# Altium footprint library PcbLib1.PcbLib: 329 footprints (part 14 of 21)
Each footprint in its own frame and in the unit in brackets; x right, y up, seen from the top. Pads: shape width x height; smd on the part's side, far side on the other; paste and mask are expansions set on the pad; w line width, h text height; cw(c..) or ccw(c..) is an arc to the next point about the centre after c.
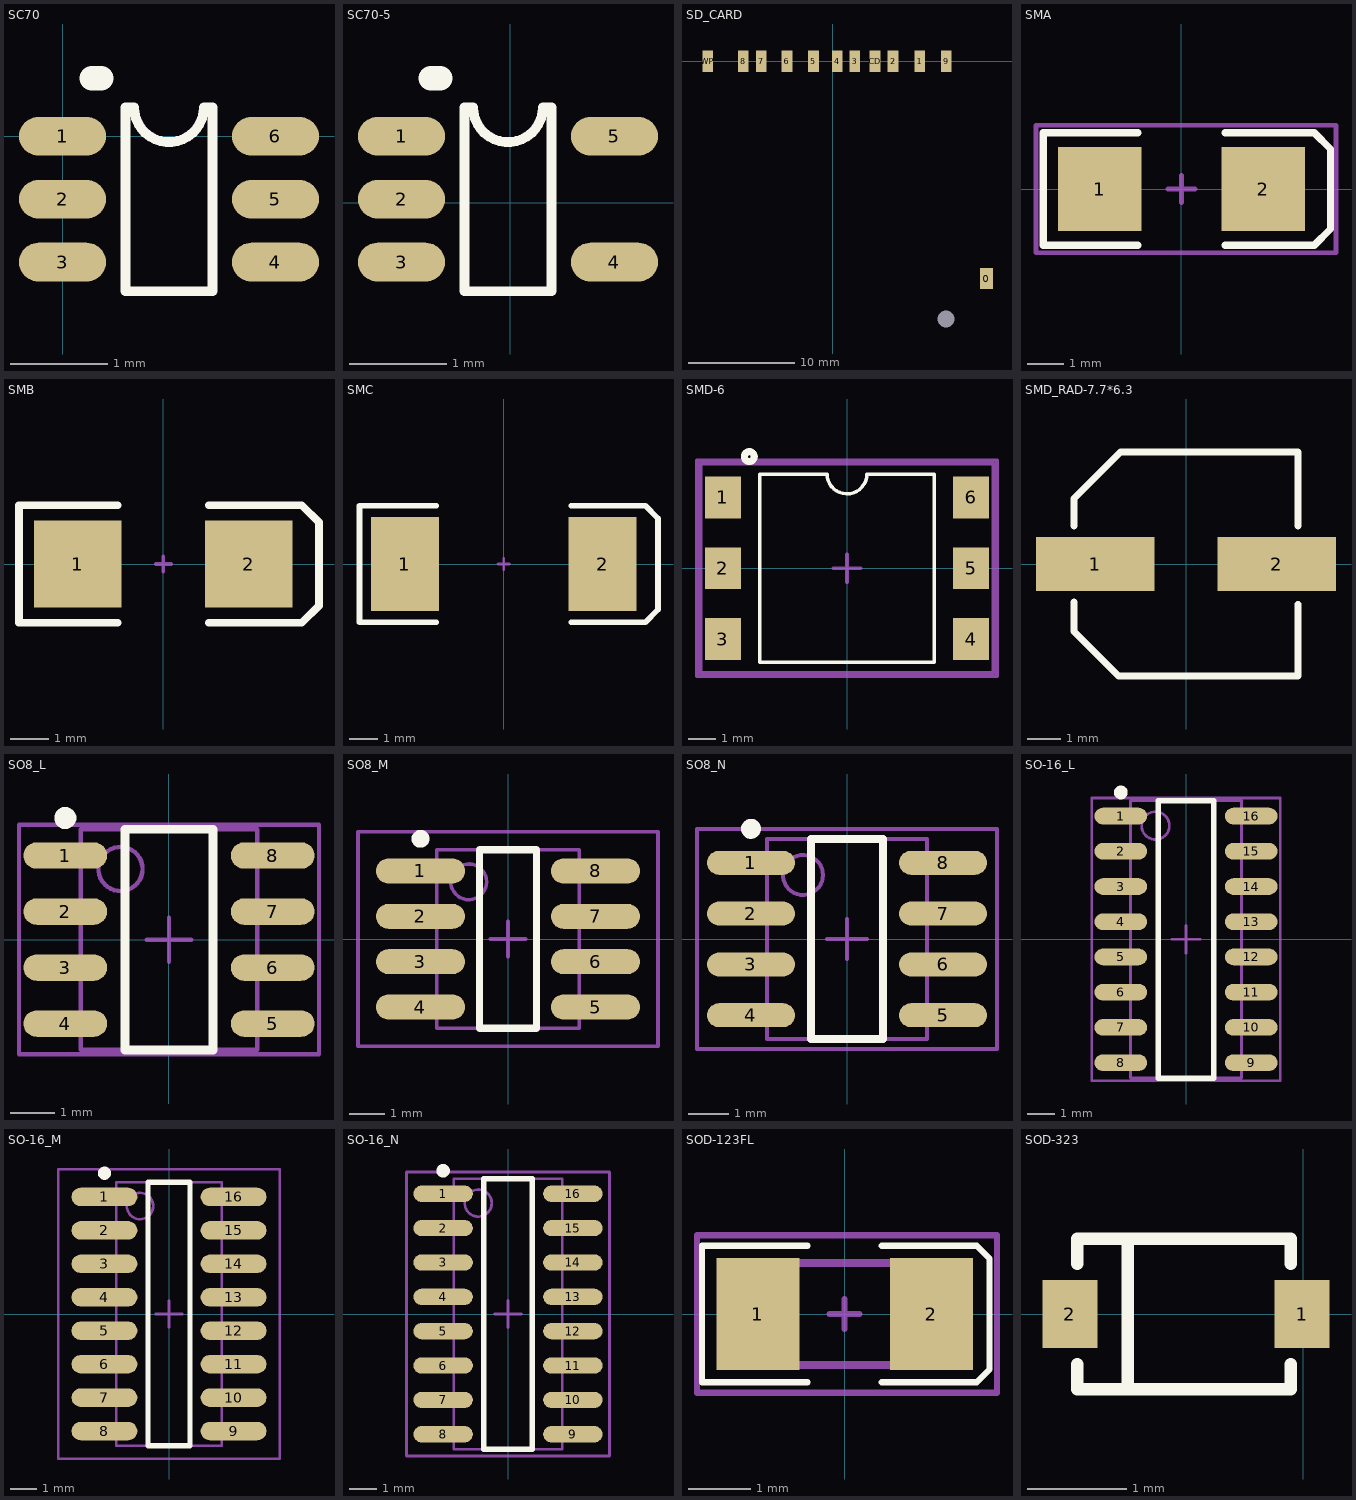
[diagram p13: the footprints below, top view; thin cyan lines are the x and y axes]

## SC70 [mm] "SC70"
height 1.91
pads (6):
  oval 0.9x0.4 smd: 1(0,0) 2(0,-0.65) 3(0,-1.3) 4(2.2,-1.3) 5(2.2,-0.65) 6(2.2,0)
Top Overlay:
  lines w0.1: 0.65,-1.6 1.55,-1.6 1.55,0.3 1.461,0.3 cw(c1.1,0.3) 0.739,0.3 0.65,0.3 0.65,-1.6
  lines w0.254: 0.3,0.6 0.4,0.6
3D body "SC70-6.step": height 0.85, standoff -0.1, extent 0.05,-1.65 2.15,0.35

## SC70-5 [mm]
pads (5):
  oval 0.9x0.4 smd: 1(-1.125,0.688) 2(-1.125,0.038) 3(-1.125,-0.612) 4(1.075,-0.612) 5(1.075,0.688)
Top Overlay:
  lines w0.1: -0.475,-0.912 0.425,-0.912 0.425,0.988 0.336,0.988 cw(c-0.025,0.988) -0.386,0.988 -0.475,0.988 -0.475,-0.912
  lines w0.254: -0.825,1.288 -0.725,1.288
3D body "User Library-SC70-5-1.step": height 0.85, standoff -0.1, extent -1.075,-0.963 1.025,1.037

## SD_CARD [mm] "CONN SD CARD PUSH-PUSH R/A SMD"
height 2.7
pads (13):
  round 0.5 hole 1.6: 0(10.7,-24.3)
  rect 1.2x2 smd: 0(14.5,-20.5)
  rect 1x2 smd: 1(8.2,0) 2(5.7,0) 3(2.1,0) 4(0.45,0) 5(-1.8,0) 6(-4.3,0) 7(-6.73,0) 8(-8.43,0) 9(10.7,0) CD(4,0) WP(-11.78,0)
3D body "SD_CARD.STEP": height 2.88, standoff -0.63, extent -12.775,-29.71 16.575,0.35

## SMA [mm] "DO-214-AA/SMB; 2 C-Bend Leads; Body 5.3 x 3.6 mm, inc. leads (LxW)"
height 2.54
pads (2):
  rect 2.3x2.3 smd: 1(-2.25,0) 2(2.25,0)
Top Overlay:
  lines w0.2: -1.2,-1.55 -3.8,-1.55 -3.8,1.55 -1.2,1.55 ; 1.2,-1.55 3.65,-1.55 4.1,-1.1 4.1,1.1 3.65,1.55 1.2,1.55
Mechanical 1:
  lines w0.1: -0.2,0 0.2,0 ; 0,-0.2 0,0.2
Mechanical 15:
  lines w0.127: -0.375,0 0.375,0 ; 0,-0.375 0,0.375 ; -4,-1.75 -4,1.75 4.25,1.75 4.25,-1.75 -4,-1.75
3D body "DIODE_DO-214.step": height 2.6, standoff 0.03, extent -2.75,-1.4 2.75,1.4

## SMB [mm] "DO-214-AA/SMB; 2 C-Bend Leads; Body 5.3 x 3.6 mm, inc. leads (LxW)"
height 2.54
pads (2):
  rect 2.3x2.3 smd: 1(-2.25,0) 2(2.25,0)
Top Overlay:
  lines w0.2: -1.2,-1.55 -3.8,-1.55 -3.8,1.55 -1.2,1.55 ; 1.2,-1.55 3.65,-1.55 4.1,-1.1 4.1,1.1 3.65,1.55 1.2,1.55
Mechanical 1:
  lines w0.1: -0.2,0 0.2,0 ; 0,-0.2 0,0.2

## SMC [mm] "DO-214-AB/SMC; 2 C-Bend Leads; Body 7.9 x 5.9 mm, inc. leads (LxW)"
height 2.65
pads (2):
  rect 2.4x3.3 smd: 1(-3.475,0) 2(3.475,0)
Top Overlay:
  lines w0.2: -2.375,-2.05 -5.075,-2.05 -5.075,2.05 -2.375,2.05 ; 2.375,-2.05 4.975,-2.05 5.425,-1.6 5.425,1.6 4.975,2.055 ; 2.375,2.05 4.975,2.05
Mechanical 1:
  lines w0.1: -0.2,0 0.2,0 ; 0,-0.2 0,0.2

## SMD-6 [mm]
pads (6):
  rect 1.3x1.5 smd: 1(-4.445,2.54) 2(-4.445,0) 3(-4.445,-2.54) 4(4.445,-2.54) 5(4.445,0) 6(4.445,2.54)
Top Overlay:
  circle w0.254: c-3.5,4 r0.177
  lines w0.127: -0.031,2.663 cw(c0,3.375) -0.713,3.375 -3.125,3.375 -3.125,-3.375 3.125,-3.375 3.125,3.375 0.712,3.375 cw(c0,3.375) 0,2.662
Mechanical 13:
  lines w0.127: -5.25,-3.75 5.25,-3.75 5.25,3.75 -5.125,3.75 -5.25,3.75 -5.25,-3.75
Mechanical 15:
  lines w0.127: -0.5,0 0.5,0 ; 0,-0.5 0,0.5 ; -5.375,-3.875 -5.375,3.875 5.375,3.875 5.375,-3.875 -5.375,-3.875
3D body "User Library-6-SMD.step": height 3.51, standoff -0.1, extent -5.08,-3.625 5.08,3.665

## SMD_RAD-7.7*6.3 [mm] "Radial Cap, SMD; 2 Leads;"
height 7.7
pads (2):
  rect 3.5x1.6 smd: 1(-2.688,0) 2(2.688,0)
Top Overlay:
  lines w0.2: -3.313,-1.125 -3.313,-2 -2,-3.313 3.313,-3.313 3.313,-1.187 ; -3.313,1.125 -3.313,1.938 -1.938,3.313 3.313,3.313 3.313,1.125
3D body "SMD_ALUMINIUM_CAPACITOR.STEP": height 8.11, standoff 0, extent -3.5,-3.3 3.5,3.3

## SO8_L [mm] "SOIC, 8-Leads, Body 4.9x3.9mm, Pitch 1.27mm, IPC High Density"
height 1.75
pads (8):
  oval 1.9x0.6 smd: 1(-2.35,1.905) 2(-2.35,0.635) 3(-2.35,-0.635) 4(-2.35,-1.905) 5(2.35,-1.905) 6(2.35,-0.635) 7(2.35,0.635) 8(2.35,1.905)
Top Overlay:
  circle w0.25: c-2.35,2.755 r0.125
  lines w0.2: -1,-2.5 -1,2.5 1,2.5 1,-2.5 -1,-2.5
Mechanical 13:
  circle w0.1: c-1.1,1.6 r0.5
  lines w0.1: -2,-2.5 -2,2.5 2,2.5 2,-2.5 -2,-2.5
Mechanical 15:
  lines w0.1: -0.5,0 0.5,0 ; 0,-0.5 0,0.5 ; -3.4,-2.6 -3.4,2.6 3.4,2.6 3.4,-2.6 -3.4,-2.6
3D body: height 1.75, standoff 0, extent -2,-2.5 2,2.5

## SO8_M [mm] "SOIC, 8-Leads, Body 4.9x3.9mm, Pitch 1.27mm, IPC Low Density"
height 1.75
pads (8):
  oval 2.5x0.7 smd: 1(-2.45,1.905) 2(-2.45,0.635) 3(-2.45,-0.635) 4(-2.45,-1.905) 5(2.45,-1.905) 6(2.45,-0.635) 7(2.45,0.635) 8(2.45,1.905)
Top Overlay:
  circle w0.25: c-2.45,2.805 r0.125
  lines w0.2: -0.8,-2.5 -0.8,2.5 0.8,2.5 0.8,-2.5 -0.8,-2.5
Mechanical 13:
  circle w0.1: c-1.1,1.6 r0.5
  lines w0.1: -2,-2.5 -2,2.5 2,2.5 2,-2.5 -2,-2.5
Mechanical 15:
  lines w0.1: -0.5,0 0.5,0 ; 0,-0.5 0,0.5 ; -4.2,-3 -4.2,3 4.2,3 4.2,-3 -4.2,-3
3D body: height 1.75, standoff 0, extent -2,-2.5 2,2.5

## SO8_N [mm] "SOIC, 8-Leads, Body 4.9x3.9mm, Pitch 1.27mm, IPC Medium Density"
height 1.75
pads (8):
  oval 2.2x0.6 smd: 1(-2.4,1.905) 2(-2.4,0.635) 3(-2.4,-0.635) 4(-2.4,-1.905) 5(2.4,-1.905) 6(2.4,-0.635) 7(2.4,0.635) 8(2.4,1.905)
Top Overlay:
  circle w0.25: c-2.4,2.755 r0.125
  lines w0.2: -0.9,-2.5 -0.9,2.5 0.9,2.5 0.9,-2.5 -0.9,-2.5
Mechanical 13:
  circle w0.1: c-1.1,1.6 r0.5
  lines w0.1: -2,-2.5 -2,2.5 2,2.5 2,-2.5 -2,-2.5
Mechanical 15:
  lines w0.1: -0.5,0 0.5,0 ; 0,-0.5 0,0.5 ; -3.75,-2.75 -3.75,2.75 3.75,2.75 3.75,-2.75 -3.75,-2.75
3D body "SOIC8.STEP": height 1.7, standoff 0, extent -3,-2.45 3,2.45

## SO-16_L [mm] "SOIC, 16-Leads, Body 9.9x3.9mm, Pitch 1.27mm, IPC High Density"
height 1.75
pads (16):
  oval 1.9x0.6 smd: 1(-2.35,4.445) 2(-2.35,3.175) 3(-2.35,1.905) 4(-2.35,0.635) 5(-2.35,-0.635) 6(-2.35,-1.905) 7(-2.35,-3.175) 8(-2.35,-4.445) 9(2.35,-4.445) 10(2.35,-3.175) 11(2.35,-1.905) 12(2.35,-0.635) 13(2.35,0.635) 14(2.35,1.905) 15(2.35,3.175) 16(2.35,4.445)
Top Overlay:
  circle w0.25: c-2.35,5.295 r0.125
  lines w0.2: -1,-5 1,-5 1,5 -1,5 -1,-5
Mechanical 13:
  circle w0.1: c-1.1,4.1 r0.5
  lines w0.1: -2,-5 2,-5 2,5 -2,5 -2,-5
Mechanical 15:
  lines w0.1: -0.5,0 0.5,0 ; 0,-0.5 0,0.5 ; -3.4,-5.1 3.4,-5.1 3.4,5.1 -3.4,5.1 -3.4,-5.1
3D body: height 1.75, standoff 0, extent -2,-5 2,5

## SO-16_M [mm] "SOIC, 16-Leads, Body 9.9x3.9mm, Pitch 1.27mm, IPC Low Density"
height 1.75
pads (16):
  oval 2.5x0.7 smd: 1(-2.45,4.445) 2(-2.45,3.175) 3(-2.45,1.905) 4(-2.45,0.635) 5(-2.45,-0.635) 6(-2.45,-1.905) 7(-2.45,-3.175) 8(-2.45,-4.445) 9(2.45,-4.445) 10(2.45,-3.175) 11(2.45,-1.905) 12(2.45,-0.635) 13(2.45,0.635) 14(2.45,1.905) 15(2.45,3.175) 16(2.45,4.445)
Top Overlay:
  circle w0.25: c-2.45,5.345 r0.125
  lines w0.2: -0.8,-5 0.8,-5 0.8,5 -0.8,5 -0.8,-5
Mechanical 13:
  circle w0.1: c-1.1,4.1 r0.5
  lines w0.1: -2,-5 2,-5 2,5 -2,5 -2,-5
Mechanical 15:
  lines w0.1: -0.5,0 0.5,0 ; 0,-0.5 0,0.5 ; -4.2,-5.5 4.2,-5.5 4.2,5.5 -4.2,5.5 -4.2,-5.5
3D body: height 1.75, standoff 0, extent -2,-5 2,5

## SO-16_N [mm] "SOIC, 16-Leads, Body 9.9x3.9mm, Pitch 1.27mm, IPC Medium Density"
height 1.75
pads (16):
  oval 2.2x0.6 smd: 1(-2.4,4.445) 2(-2.4,3.175) 3(-2.4,1.905) 4(-2.4,0.635) 5(-2.4,-0.635) 6(-2.4,-1.905) 7(-2.4,-3.175) 8(-2.4,-4.445) 9(2.4,-4.445) 10(2.4,-3.175) 11(2.4,-1.905) 12(2.4,-0.635) 13(2.4,0.635) 14(2.4,1.905) 15(2.4,3.175) 16(2.4,4.445)
Top Overlay:
  circle w0.25: c-2.4,5.295 r0.125
  lines w0.2: -0.9,-5 0.9,-5 0.9,5 -0.9,5 -0.9,-5
Mechanical 13:
  circle w0.1: c-1.1,4.1 r0.5
  lines w0.1: -2,-5 2,-5 2,5 -2,5 -2,-5
Mechanical 15:
  lines w0.1: -0.5,0 0.5,0 ; 0,-0.5 0,0.5 ; -3.75,-5.25 3.75,-5.25 3.75,5.25 -3.75,5.25 -3.75,-5.25
3D body: height 1.75, standoff 0, extent -2,-5 2,5

## SOD-123FL [mm] "SOD-123FL"
height 2.54
pads (2):
  rect 1.34x1.8 smd: 1(-1.4,0) 2(1.4,0)
Top Overlay:
  lines w0.1: -0.6,-1.1 -2.3,-1.1 -2.3,1.1 -0.6,1.1 ; 0.6,-1.1 2.135,-1.1 2.342,-0.893 2.342,0.893 2.135,1.1 0.6,1.1
Mechanical 13:
  lines w0.127: -1.794,-0.825 -1.794,0.825 1.794,0.825 1.794,-0.825 -1.794,-0.825
Mechanical 15:
  lines w0.102: -0.238,0 0.238,0 ; 0,-0.238 0,0.238 ; -2.381,-1.27 2.461,-1.27 2.461,1.27 -2.381,1.27 -2.381,-1.27
3D body "SOD-123FL.step": height 0.95, standoff 0.01, extent -1.794,-0.825 1.794,0.825

## SOD-323 [mil]
pads (2):
  rect 22x27 smd: 1(-0.5,0) 2(-93,0)
Top Overlay:
  lines w5: -90,-20 -90,-30 -5,-30 -5,-20 ; -90,20 -90,30 ; -90,25 -90,30 ; -70,-30 -70,30 ; -5,20 -5,30 ; -90,30 -5,30 ; -90,30 -5,30
3D body "User Library-SOD-323.step": height 43.41, standoff 0, extent -99.18,-26.57 3.19,26.58